# EAGLE library part M07X2 (library Flying Camp Design)
Header 7x2
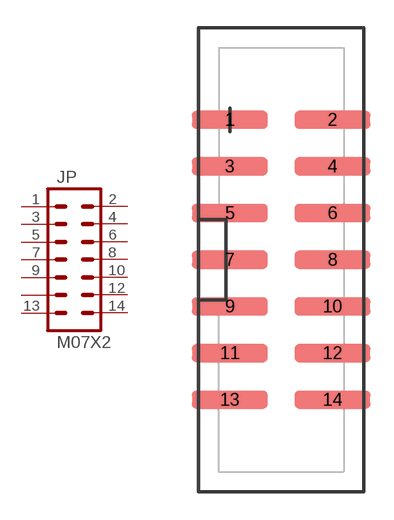
[diagram p6: symbol with the pads of 2X7-SHROUDED_SMD; footprint 2X7-SHROUDED_SMD]

Designator prefix JP

## M07X2SHD_SMD  [2X7-SHROUDED_SMD]
1  1  pas
2  2  pas
3  3  pas
4  4  pas
5  5  pas
6  6  pas
7  7  pas
8  8  pas
9  9  pas
10  10  pas
11  11  pas
12  12  pas
13  13  pas
14  14  pas

## Footprint 2X7-SHROUDED_SMD (pad centres in mm)
smd 4.15 x 1: 1 -2.794,7.62; 2 2.794,7.62; 3 -2.794,5.08; 4 2.794,5.08; 5 -2.794,2.54; 6 2.794,2.54; 7 -2.794,0; 8 2.794,0; 9 -2.794,-2.54; 10 2.794,-2.54; 11 -2.794,-5.08; 12 2.794,-5.08; 13 -2.794,-7.62; 14 2.794,-7.62